# Altium footprint library 2173157-3.PcbLib: 1 footprints
Each footprint in its own frame and in the unit in brackets; x right, y up, seen from the top. Pads: shape width x height; smd on the part's side, far side on the other; paste and mask are expansions set on the pad; w line width, h text height; cw(c..) or ccw(c..) is an arc to the next point about the centre after c.
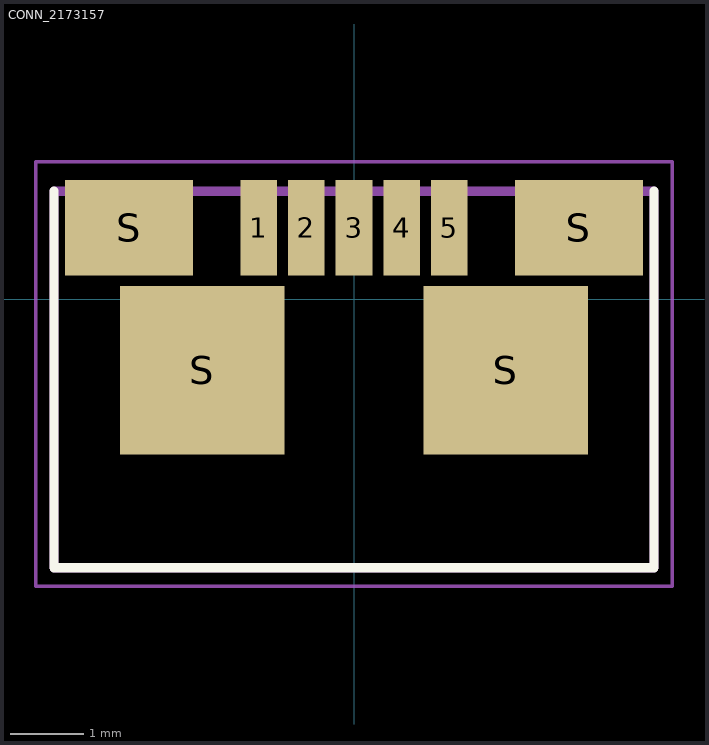
[diagram p0: the footprint, top view; thin cyan lines are the x and y axes]

## CONN_2173157 [mm]
pads (9):
  rect 0.5x1.3 smd: 1(-1.3,0.975) 2(-0.65,0.975) 3(0,0.975) 4(0.65,0.975) 5(1.3,0.975)
  rect 1.75x1.3 smd: S(-3.075,0.975) S(3.075,0.975)
  rect 2.25x2.3 smd: S(-2.075,-0.975) S(2.075,-0.975)
Top Overlay:
  lines w0.127: -4.1,1.476 -4.1,-3.675 4.1,-3.675 4.1,1.476
Outline:
  lines w0.05: -4.35,-3.925 4.35,-3.925 4.35,1.875 -4.35,1.875 -4.35,-3.925
  lines w0.127: -4.1,-3.675 4.1,-3.675 4.1,1.475 -4.1,1.475 -4.1,-3.675
3D body: height 3.79, standoff -0.01, extent -4.1,-3.627 4.1,1.483